# Altium footprint library SOP-16.PcbLib: 1 footprints
Each footprint in its own frame and in the unit in brackets; x right, y up, seen from the top. Pads: shape width x height; smd on the part's side, far side on the other; paste and mask are expansions set on the pad; w line width, h text height; cw(c..) or ccw(c..) is an arc to the next point about the centre after c.
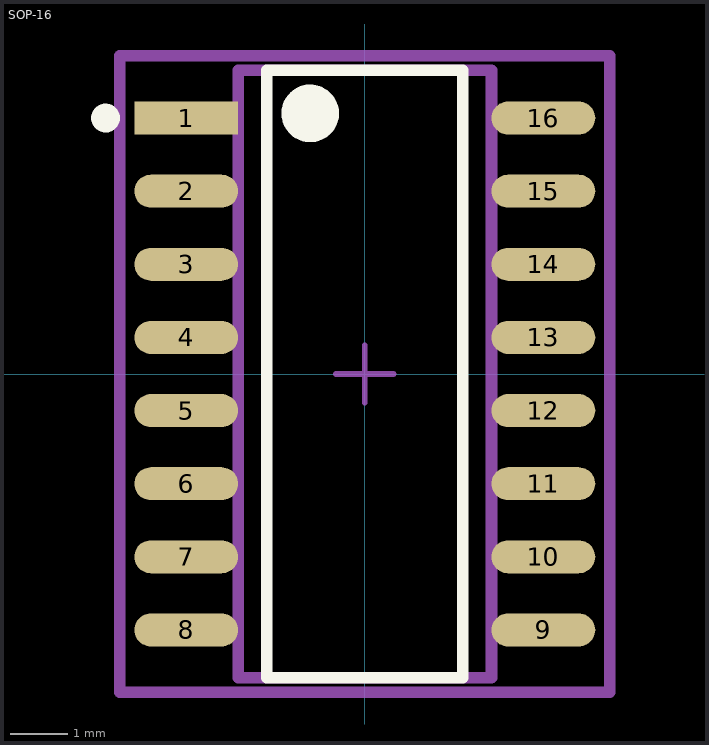
[diagram p0: the footprint, top view; thin cyan lines are the x and y axes]

## SOP-16 [mil]
pads (16):
  rect 71x22.52 smd paste+0 mask+0: 1(-122.06,175)
  rrect100% 71x22.52 smd paste+0 mask+0: 2(-122.06,125) 3(-122.06,75) 4(-122.06,25) 5(-122.06,-25) 6(-122.06,-75) 7(-122.06,-125) 8(-122.06,-175) 9(122.06,-175) 10(122.06,-125) 11(122.06,-75) 12(122.06,-25) 13(122.06,25) 14(122.06,75) 15(122.06,125) 16(122.06,175)
Top Overlay:
  circle w9.84: c-177.25,175 r4.92
  circle w19.68: c-37.35,178.15 r9.84
  lines w7.87: -66.88,-207.68 -66.88,207.68 66.88,207.68 66.88,-207.68 -66.88,-207.68
Top Assembly:
  lines w7.87: -167.4,-217.52 -167.4,217.52 167.4,217.52 167.4,-217.52 -167.4,-217.52
  text ".Designator" at 0,7.39 h39.37
Top 3D Body:
  lines w7.87: -86.61,-207.68 -86.61,207.68 86.61,207.68 86.61,-207.68 -86.61,-207.68
Top Courtyard:
  lines w7.87: -167.4,-217.52 -167.4,217.52 167.4,217.52 167.4,-217.52 -167.4,-217.52
Top Component Center:
  lines w3.94: -19.68,0 19.68,0 ; 0,-19.68 0,19.68
3D body "IC_Vishay_TCMT4100_eec.STEP": height 10, standoff 0, extent -167.4,-217.52 167.4,217.52